# EAGLE library part BQ34Z100 (library custom)
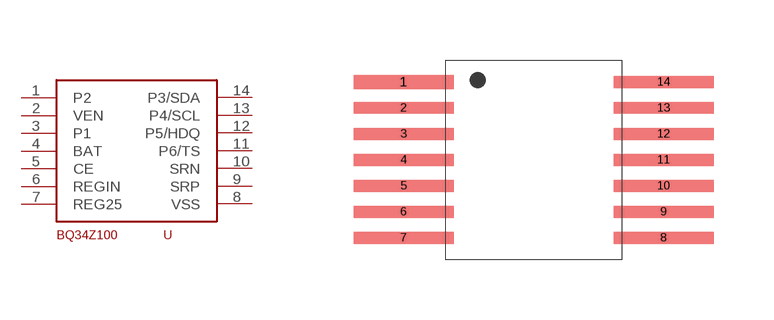
[diagram p3: symbol with the pads of TSSOP-14-0.65MM; footprint TSSOP-14-0.65MM]

Designator prefix -

## BQ34Z100  [TSSOP-14-0.65MM]
1  P2
2  VEN
3  P1
4  BAT
5  CE
6  REGIN
7  REG25
8  VSS
9  SRP
10  SRN
11  P6/TS
12  P5/HDQ
13  P4/SCL
14  P3/SDA

## Footprint TSSOP-14-0.65MM (pad centres in mm)
smd 2.5 x 0.35: 1 -3.25,1.95
smd 2.5 x 0.3: 2 -3.25,1.3; 3 -3.25,0.65; 4 -3.25,0; 5 -3.25,-0.65; 6 -3.25,-1.3; 7 -3.25,-1.95; 8 3.25,-1.95; 9 3.25,-1.3; 10 3.25,-0.65; 11 3.25,0; 12 3.25,0.65; 13 3.25,1.3; 14 3.25,1.95